# Altium schematic symbol library EN-C200_RA0.SchLib: 58 symbols
Pins are listed as number, name and electrical type; pins without a type are passive.

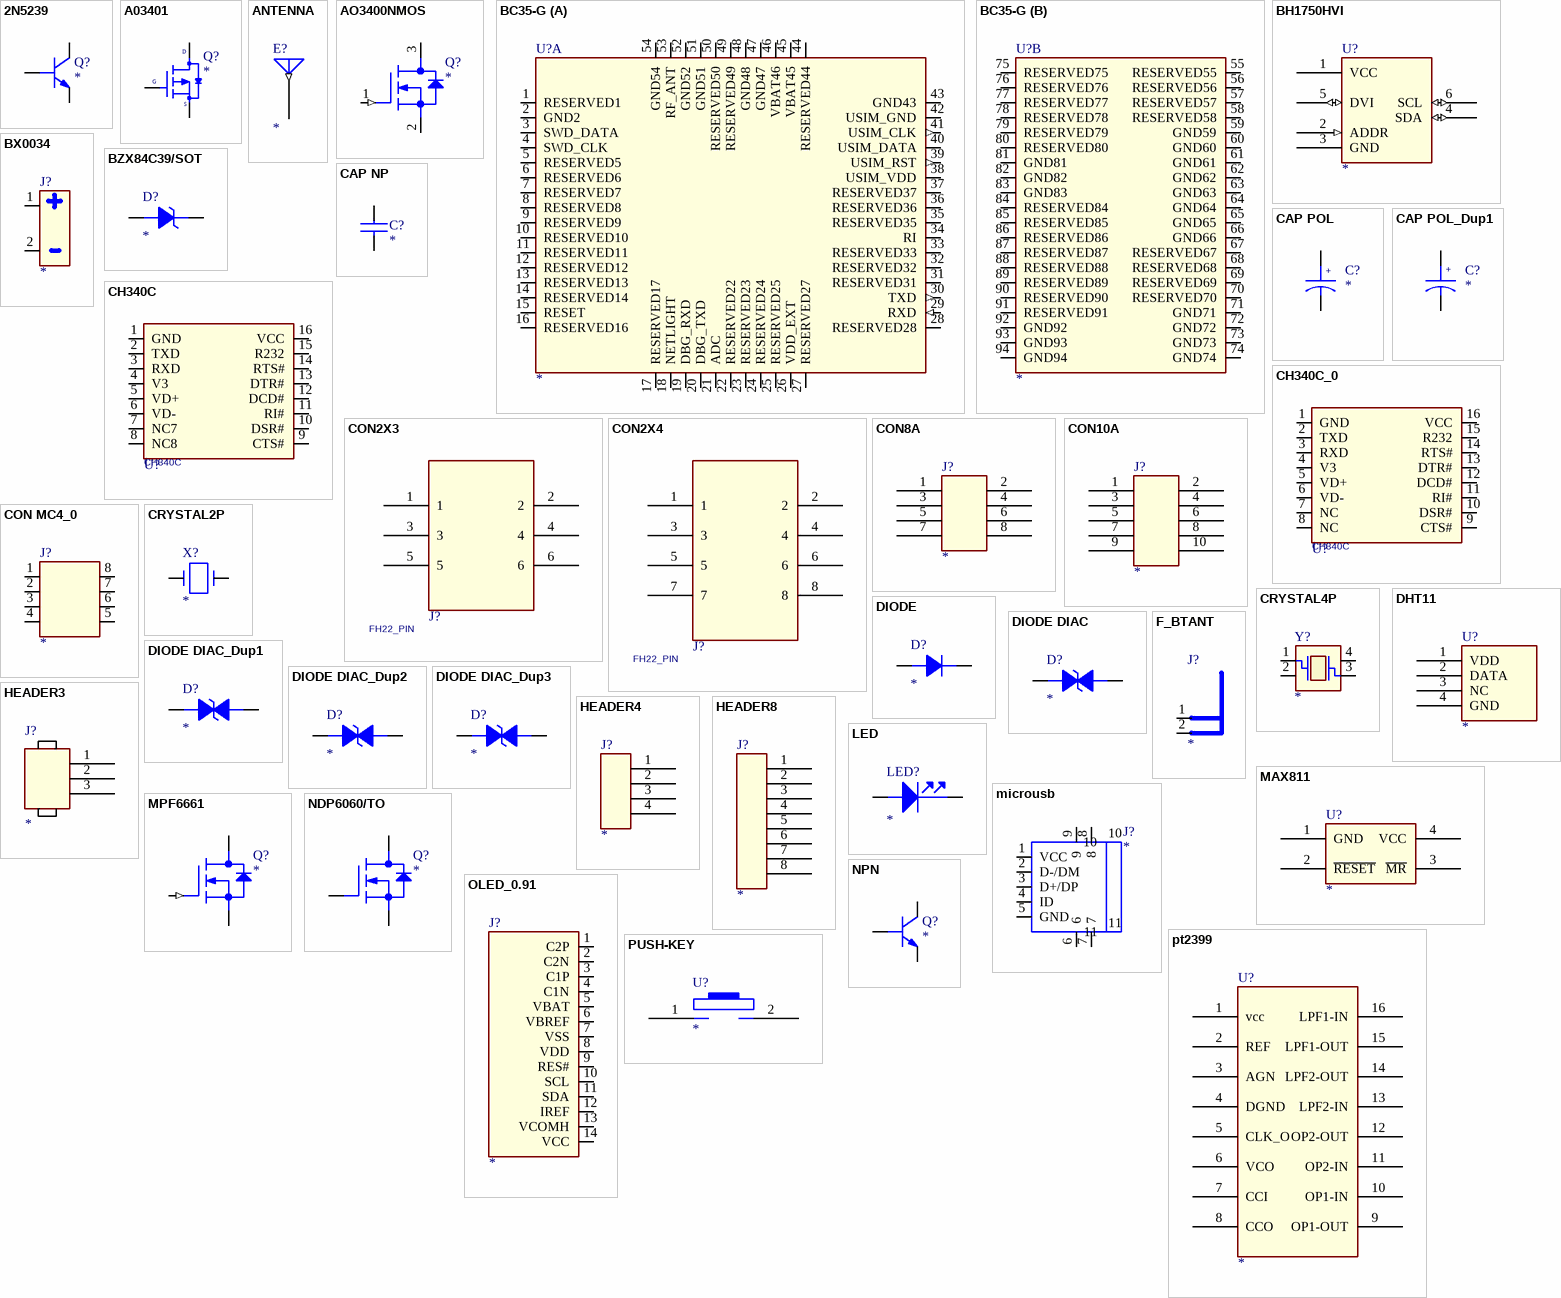
[diagram p0: symbols 2N5239 to PUSH-KEY]

## 2N5239
designator Q?
PspiceTemplate: Q^@REFDES %C %B %E
simulation model 2N5239
pins: 1 B, 2 C, 3 E

## A03401
designator Q?
pins: 1 G, 2 S, 3 D

## ANTENNA
designator E?
footprint NB-ANT
pins: 1 (out), 2 (power) hidden to GND "GND", 3 (power) hidden to GND "GND"

## AO3400NMOS
designator Q?
pins: 1 G (in), 2 S, 3 D

## BC35-G
designator U?
SPLIT_INST: TRUE; SWAP_INFO: (S1+S2)
part A pins: 1 RESERVED1, 2 GND2 (power), 3 SWD_DATA (io), 4 SWD_CLK (io), 5 RESERVED5, 6 RESERVED6, 7 RESERVED7, 8 RESERVED8, 9 RESERVED9, 10 RESERVED10, 11 RESERVED11, 12 RESERVED12, 13 RESERVED13, 14 RESERVED14, 15 RESET, 16 RESERVED16, 17 RESERVED17, 18 NETLIGHT, 19 DBG_RXD, 20 DBG_TXD, 21 ADC, 22 RESERVED22, 23 RESERVED23, 24 RESERVED24, 25 RESERVED25, 26 VDD_EXT, 27 RESERVED27, 28 RESERVED28, 29 RXD (in), 30 TXD (out), 31 RESERVED31, 32 RESERVED32, 33 RESERVED33, 34 RI, 35 RESERVED35, 36 RESERVED36, 37 RESERVED37, 38 USIM_VDD (power), 39 USIM_RST (out), 40 USIM_DATA (io), 41 USIM_CLK (out), 42 USIM_GND (power), 43 GND43 (power), 44 RESERVED44, 45 VBAT45 (power), 46 VBAT46 (power), 47 GND47 (power), 48 GND48 (power), 49 RESERVED49, 50 RESERVED50, 51 GND51 (power), 52 GND52 (power), 53 RF_ANT (io), 54 GND54 (power)
part B pins: 55 RESERVED55, 56 RESERVED56, 57 RESERVED57, 58 RESERVED58, 59 GND59 (power), 60 GND60 (power), 61 GND61 (power), 62 GND62 (power), 63 GND63 (power), 64 GND64 (power), 65 GND65 (power), 66 GND66 (power), 67 RESERVED67, 68 RESERVED68, 69 RESERVED69, 70 RESERVED70, 71 GND71 (power), 72 GND72 (power), 73 GND73 (power), 74 GND74 (power), 75 RESERVED75, 76 RESERVED76, 77 RESERVED77, 78 RESERVED78, 79 RESERVED79, 80 RESERVED80, 81 GND81 (power), 82 GND82 (power), 83 GND83 (power), 84 RESERVED84, 85 RESERVED85, 86 RESERVED86, 87 RESERVED87, 88 RESERVED88, 89 RESERVED89, 90 RESERVED90, 91 RESERVED91, 92 GND92 (power), 93 GND93 (power), 94 GND94 (power)

## BH1750HVI
designator U?
footprint sop6-20-105
pins: 1 VCC (power), 2 ADDR (in), 3 GND (power), 4 SDA (io), 5 DVI (io), 6 SCL (io)

## BX0034
designator J?
pins: 1, 2

## BZX84C39/SOT
designator D?
pins: 1 ANODE, 3 CATHODE

## CAP NP
designator C?
pins: 1, 2

## CAP POL
designator C?
pins: 1, 2
text: +

## CAP POL_Dup1
designator C?
pins: 1, 2
text: +

## CH340C
designator U?
pins: 1 GND (power), 2 TXD, 3 RXD, 4 V3 (power), 5 VD+ (io), 6 VD- (io), 7 NC7 (power), 8 NC8 (power), 9 CTS#, 10 DSR#, 11 RI#, 12 DCD#, 13 DTR#, 14 RTS#, 15 R232, 16 VCC (power)

## CH340C_0
designator U?, comment CH340C
pins: 1 GND (power), 2 TXD, 3 RXD, 4 V3, 5 VD+, 6 VD-, 7 NC, 8 NC, 9 CTS#, 10 DSR#, 11 RI#, 12 DCD#, 13 DTR#, 14 RTS#, 15 R232, 16 VCC (power)

## CON2X3
designator J?, comment FH22_PIN
pins: 1, 2, 3, 4, 5, 6

## CON2X4
designator J?, comment FH22_PIN
pins: 1, 2, 3, 4, 5, 6, 7, 8

## CON8A
designator J?
pins: 1, 2, 3, 4, 5, 6, 7, 8

## CON10A
designator J?
pins: 1, 2, 3, 4, 5, 6, 7, 8, 9, 10

## CON MC4_0
designator J?
pins: 1, 2, 3, 4, 5, 6, 7, 8

## CRYSTAL2P
designator X?
pins: 1, 2

## CRYSTAL4P
designator Y?
footprint HCX_4SB
pins: 1 CIN, 2, 3 COUT, 4

## DHT11
designator U?
footprint SIP4-100-A
pins: 1 VDD, 2 DATA, 3 NC, 4 GND

## DIODE
designator D?
pins: 1 A, 2 K

## DIODE DIAC
designator D?
pins: 1, 2

## DIODE DIAC_Dup1
designator D?
pins: 1, 2

## DIODE DIAC_Dup2
designator D?
pins: 1, 2

## DIODE DIAC_Dup3
designator D?
pins: 1, 2

## F_BTANT
designator J?
pins: 1, 2

## HEADER3
designator J?
pins: 1, 2, 3

## HEADER4
designator J?
pins: 1, 2, 3, 4

## HEADER8
designator J?
pins: 1, 2, 3, 4, 5, 6, 7, 8

## LED
designator LED?
pins: 1, 2

## MAX811
designator U?
footprint SOT143C
pins: 1 GND, 2 ~{RESET}, 3 ~{MR}, 4 VCC

## microusb
designator J?
footprint MICROUSB
pins: 1 VCC, 2 D-/DM, 3 D+/DP, 4 ID, 5 GND, 6, 7, 8, 9, 10, 11

## MPF6661
designator Q?
pins: 1 G (in), 2 S, 3 D

## NDP6060/TO
designator Q?
pins: 1 G, 2 D, 3 S

## NPN
designator Q?
pins: 1 B, 2 E, 3 C

## OLED_0.91
designator J?
pins: 1 C2P, 2 C2N, 3 C1P, 4 C1N, 5 VBAT, 6 VBREF, 7 VSS (power), 8 VDD, 9 RES#, 10 SCL, 11 SDA, 12 IREF, 13 VCOMH, 14 VCC (power)

## pt2399
designator U?
pins: 1 vcc, 2 REF, 3 AGN, 4 DGND, 5 CLK_O, 6 VCO, 7 CCI, 8 CCO, 9 OP1-OUT, 10 OP1-IN, 11 OP2-IN, 12 OP2-OUT, 13 LPF2-IN, 14 LPF2-OUT, 15 LPF1-OUT, 16 LPF1-IN

## PUSH-KEY
designator U?
pins: 1 A, 2 B

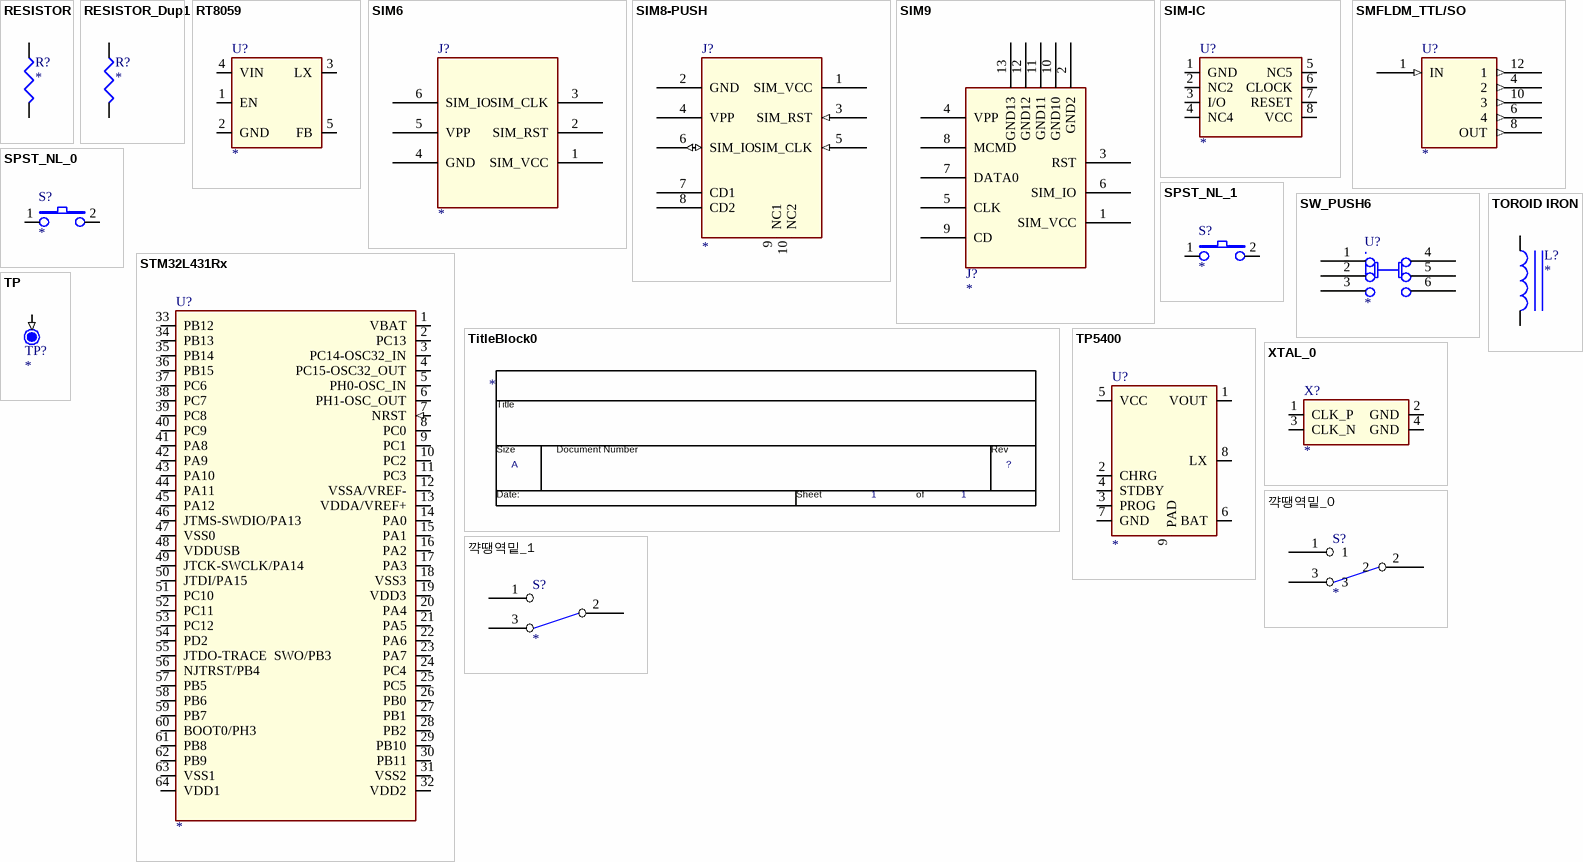
[diagram p1: symbols RESISTOR to 꺅땡역밑_1]

## RESISTOR
designator R?
pins: 1, 2

## RESISTOR_Dup1
designator R?
pins: 1, 2

## RT8059
designator U?
pins: 1 EN, 2 GND (power), 3 LX, 4 VIN (power), 5 FB

## SIM6
designator J?
pins: 1 SIM_VCC, 2 SIM_RST, 3 SIM_CLK, 4 GND, 5 VPP, 6 SIM_IO

## SIM8-PUSH
designator J?
pins: 1 SIM_VCC (power), 2 GND (power), 3 SIM_RST (in), 4 VPP, 5 SIM_CLK (in), 6 SIM_IO (io), 7 CD1, 8 CD2, 9 NC1, 10 NC2

## SIM9
designator J?
pins: 1 SIM_VCC, 2 GND2, 3 RST, 4 VPP, 5 CLK, 6 SIM_IO, 7 DATA0, 8 MCMD, 9 CD, 10 GND10, 11 GND11, 12 GND12, 13 GND13

## SIM-IC
designator U?
pins: 1 GND (power), 2 NC2, 3 I/O, 4 NC4, 5 NC5, 6 CLOCK, 7 RESET, 8 VCC (power)

## SMFLDM_TTL/SO
designator U?
pins: 1 IN (in), 4 2 (out), 6 4 (out), 7 GND (power) hidden to GND, 8 OUT (out), 10 3 (out), 12 1 (out), 14 VCC (power) hidden to VCC

## SPST_NL_0
designator S?
SDTSourceLibName: C:\WIND95\TEMP\6200.LIB
pins: 1, 2

## SPST_NL_1
designator S?
SDTSourceLibName: C:\WIND95\TEMP\6200.LIB
pins: 1, 2

## STM32L431Rx
designator U?
pins: 1 VBAT (power), 2 PC13 (io), 3 PC14-OSC32_IN (io), 4 PC15-OSC32_OUT (io), 5 PH0-OSC_IN (io), 6 PH1-OSC_OUT (io), 7 NRST (in), 8 PC0 (io), 9 PC1 (io), 10 PC2 (io), 11 PC3 (io), 12 VSSA/VREF- (power), 13 VDDA/VREF+ (power), 14 PA0 (io), 15 PA1 (io), 16 PA2 (io), 17 PA3 (io), 18 VSS3 (power), 19 VDD3 (power), 20 PA4 (io), 21 PA5 (io), 22 PA6 (io), 23 PA7 (io), 24 PC4 (io), 25 PC5 (io), 26 PB0 (io), 27 PB1 (io), 28 PB2 (io), 29 PB10 (io), 30 PB11 (io), 31 VSS2 (power), 32 VDD2 (power), 33 PB12 (io), 34 PB13 (io), 35 PB14 (io), 36 PB15 (io), 37 PC6 (io), 38 PC7 (io), 39 PC8 (io), 40 PC9 (io), 41 PA8 (io), 42 PA9 (io), 43 PA10 (io), 44 PA11 (io), 45 PA12 (io), 46 JTMS-SWDIO/PA13 (io), 47 VSS0 (power), 48 VDDUSB (power), 49 JTCK-SWCLK/PA14 (io), 50 JTDI/PA15 (io), 51 PC10 (io), 52 PC11 (io), 53 PC12 (io), 54 PD2 (io), 55 JTDO-TRACE  SWO/PB3 (io), 56 NJTRST/PB4 (io), 57 PB5 (io), 58 PB6 (io), 59 PB7 (io), 60 BOOT0/PH3 (io), 61 PB8 (io), 62 PB9 (io), 63 VSS1 (power), 64 VDD1 (power)

## SW_PUSH6
designator U?
SDTSourceLibName: C:\WIND95\TEMP\6200.LIB
pins: 1, 2, 3, 4, 5, 6

## TitleBlock0
designator *  Page Count: 1  Page Size: A  (graphical)
Page Number: 1; RevCode: ?; Page Create Date: March  8, 1995
text: Title; Size; Document Number; Rev; Date:; Sheet; of

## TOROID IRON
designator L?
pins: 1, 2

## TP
designator TP?
footprint TP
pins: 1 (in)

## TP5400
designator U?
pins: 1 VOUT (power), 2 CHRG, 3 PROG, 4 STDBY, 5 VCC (power), 6 BAT (power), 7 GND (power), 8 LX, 9 PAD

## XTAL_0
designator X?
pins: 1 CLK_P, 2 GND, 3 CLK_N, 4 GND

## 꺅땡역밑_0
designator S?
pins: 1, 2, 3

## 꺅땡역밑_1
designator S?
pins: 1, 2, 3